# Altium schematic symbol library SamacSys.SchLib: 15 symbols
Pins are listed as number, name and electrical type; pins without a type are passive.

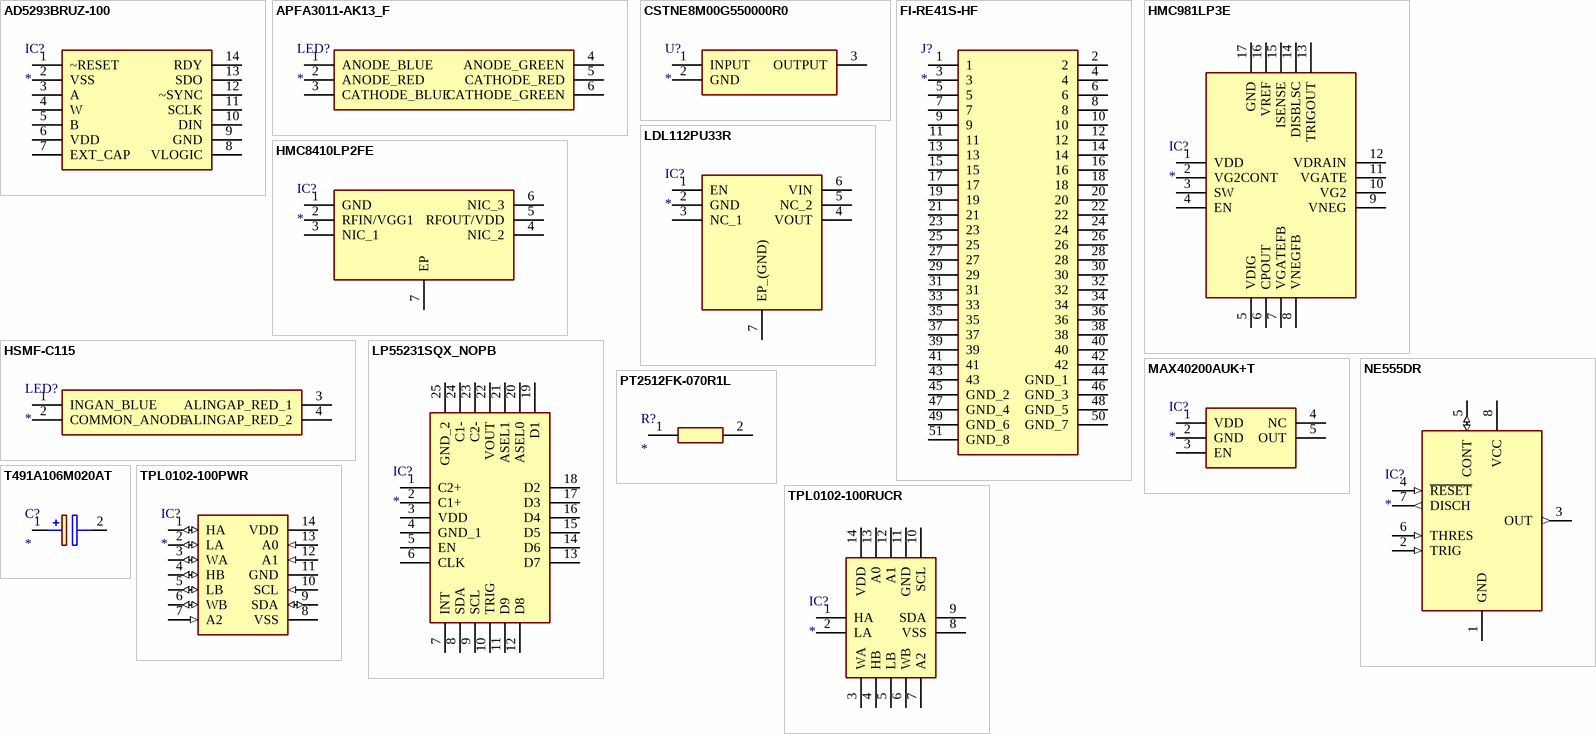
[diagram p0: symbols AD5293BRUZ-100 to TPL0102-100RUCR]

## AD5293BRUZ-100
designator IC?
Integrated Circuit; Manufacturer_Name: Analog Devices; Manufacturer_Part_Number: AD5293BRUZ-100; Datasheet Link: http://componentsearchengine.com/Datasheets/1/AD5293BRUZ-100.pdf; Mouser Part Number: 584-AD5293BRUZ-100; Mouser Price/Stock: https://www.mouser.com/Search/Refine.aspx?Keyword=584-AD5293BRUZ-100; RS Part Number: 1216717; RS Price/Stock: http://uk.rs-online.com/web/p/products/1216717
footprint SOP65P640X120-14N
pins: 1 ~RESET, 2 VSS, 3 A, 4 W, 5 B, 6 VDD, 7 EXT_CAP, 8 VLOGIC, 9 GND, 10 DIN, 11 SCLK, 12 ~SYNC, 13 SDO, 14 RDY

## APFA3011-AK13_F
designator LED?
LED; Manufacturer_Name: Kingbright; Manufacturer_Part_Number: APFA3011-AK13/F; Datasheet Link: http://www.kingbrightusa.com/images/catalog/SPEC/APFA3011-AK13-F.pdf; Height: 1.2mm; Mouser Part Number: 604-APFA3011AK13F; Mouser Price/Stock: https://www.mouser.com/Search/Refine.aspx?Keyword=604-APFA3011AK13F
footprint APFA3011AK13F
pins: 1 ANODE_BLUE, 2 ANODE_RED, 3 CATHODE_BLUE, 4 ANODE_GREEN, 5 CATHODE_RED, 6 CATHODE_GREEN

## CSTNE8M00G550000R0
designator U?
Undefined or Miscellaneous; Manufacturer_Name: Murata Electronics; Manufacturer_Part_Number: CSTNE8M00G550000R0; Datasheet Link: https://www.murata.com/en-eu/products/productdata/8801161740318/SPEC-CSTNE8M00G550000R0.pdf?1519875007000; Height: 1mm; Mouser Part Number: 81-CSTNE8M00G550000R; Mouser Price/Stock: https://www.mouser.com/Search/Refine.aspx?Keyword=81-CSTNE8M00G550000R
footprint CSTNE16M0V530000R0
pins: 1 INPUT, 2 GND, 3 OUTPUT

## FI-RE41S-HF
designator J?
Connector; Manufacturer_Name: JAE Electronics; Manufacturer_Part_Number: FI-RE41S-HF; Datasheet Link: https://componentsearchengine.com/Datasheets/1/FI-RE41S-HF.pdf; Mouser Part Number: 656-FI-RE41S-HF; Mouser Price/Stock: https://www.mouser.com/Search/Refine.aspx?Keyword=656-FI-RE41S-HF
footprint FI-RE41S-HF
pins: 1, 2, 3, 4, 5, 6, 7, 8, 9, 10, 11, 12, 13, 14, 15, 16, 17, 18, 19, 20, 21, 22, 23, 24, 25, 26, 27, 28, 29, 30, 31, 32, 33, 34, 35, 36, 37, 38, 39, 40, 41, 42, 43, 44 GND_1, 45 GND_2, 46 GND_3, 47 GND_4, 48 GND_5, 49 GND_6, 50 GND_7, 51 GND_8

## HMC981LP3E
designator IC?
Integrated Circuit; Manufacturer_Name: Analog Devices; Manufacturer_Part_Number: HMC981LP3E; Datasheet Link: https://www.analog.com/media/en/technical-documentation/data-sheets/hmc981.pdf; Height: 1mm; Mouser Part Number: 584-HMC981LP3E; Mouser Price/Stock: https://www.mouser.com/Search/Refine.aspx?Keyword=584-HMC981LP3E
footprint QFN50P300X300X100-17N
pins: 1 VDD, 2 VG2CONT, 3 SW, 4 EN, 5 VDIG, 6 CPOUT, 7 VGATEFB, 8 VNEGFB, 9 VNEG, 10 VG2, 11 VGATE, 12 VDRAIN, 13 TRIGOUT, 14 DISBLSC, 15 ISENSE, 16 VREF, 17 GND

## HMC8410LP2FE
designator IC?
Integrated Circuit; Manufacturer_Name: Analog Devices; Manufacturer_Part_Number: HMC8410LP2FE; Datasheet Link: http://www.analog.com/media/en/technical-documentation/data-sheets/HMC8410.pdf; Height: 0.9mm; Mouser Part Number: 584-HMC8410LP2FE; Mouser Price/Stock: https://www.mouser.com/Search/Refine.aspx?Keyword=584-HMC8410LP2FE
footprint SON65P200X200X90-7N-D
pins: 1 GND, 2 RFIN/VGG1, 3 NIC_1, 4 NIC_2, 5 RFOUT/VDD, 6 NIC_3, 7 EP

## HSMF-C115
designator LED?
LED; Manufacturer_Name: Avago Technologies; Manufacturer_Part_Number: HSMF-C115; Datasheet Link: https://docs.broadcom.com/docs/AV02-0611EN; Height: 1.1mm; Mouser Part Number: 630-HSMF-C115; Mouser Price/Stock: https://www.mouser.com/Search/Refine.aspx?Keyword=630-HSMF-C115; RS Part Number: 7166573; RS Price/Stock: https://uk.rs-online.com/web/p/products/7166573
footprint HSMFC115
pins: 1 INGAN_BLUE, 2 COMMON_ANODE, 3 ALINGAP_RED_1, 4 ALINGAP_RED_2

## LDL112PU33R
designator IC?
Integrated Circuit; Manufacturer_Name: STMicroelectronics; Manufacturer_Part_Number: LDL112PU33R; Datasheet Link: https://www.st.com/resource/en/datasheet/ldl112.pdf; Height: 0.8mm; Mouser Part Number: 511-LDL112PU33R; Mouser Price/Stock: https://www.mouser.com/Search/Refine.aspx?Keyword=511-LDL112PU33R
footprint SON50P200X200X80-7N-D
pins: 1 EN, 2 GND, 3 NC_1, 4 VOUT, 5 NC_2, 6 VIN, 7 EP_(GND)

## LP55231SQX_NOPB
designator IC?
Integrated Circuit; Manufacturer_Name: Texas Instruments; Manufacturer_Part_Number: LP55231SQX/NOPB; Datasheet Link: http://www.ti.com/lit/gpn/lp55231; Height: 0.8mm; Mouser Part Number: 595-LP55231SQX/NOPB; Mouser Price/Stock: https://www.mouser.com/Search/Refine.aspx?Keyword=595-LP55231SQX%2FNOPB
footprint QFN50P400X400X80-25N
pins: 1 C2+, 2 C1+, 3 VDD, 4 GND_1, 5 EN, 6 CLK, 7 INT, 8 SDA, 9 SCL, 10 TRIG, 11 D9, 12 D8, 13 D7, 14 D6, 15 D5, 16 D4, 17 D3, 18 D2, 19 D1, 20 ASEL0, 21 ASEL1, 22 VOUT, 23 C2-, 24 C1-, 25 GND_2

## MAX40200AUK+T
designator IC?
Integrated Circuit; Manufacturer_Name: Maxim Integrated; Manufacturer_Part_Number: MAX40200AUK+T; Datasheet Link: https://datasheets.maximintegrated.com/en/ds/MAX40200.pdf; Height: 1.45mm; Mouser Part Number: 700-MAX40200AUK+T; Mouser Price/Stock: https://www.mouser.com/Search/Refine.aspx?Keyword=700-MAX40200AUK%2BT; RS Part Number: 1697573; RS Price/Stock: https://uk.rs-online.com/web/p/products/1697573
footprint SOT95P280X145-5N
pins: 1 VDD, 2 GND, 3 EN, 4 NC, 5 OUT

## NE555DR
designator IC?
Integrated Circuit; Manufacturer_Name: Texas Instruments; Manufacturer_Part_Number: NE555DR; Datasheet Link: http://www.ti.com/lit/ds/symlink/ne555.pdf; Height: 1.75mm; Mouser Part Number: 595-NE555DR; Mouser Price/Stock: https://www.mouser.com/Search/Refine.aspx?Keyword=595-NE555DR; RS Part Number: 1218414; RS Price/Stock: http://uk.rs-online.com/web/p/products/1218414
footprint SOIC127P600X175-8N
pins: 1 GND (power), 2 TRIG (in), 3 OUT (out), 4 ~{RESET} (in), 5 CONT (io), 6 THRES (in), 7 DISCH (out), 8 VCC (power)

## PT2512FK-070R1L
designator R?
Resistor; Manufacturer_Name: YAGEO (PHYCOMP); Manufacturer_Part_Number: PT2512FK-070R1L; Datasheet Link: https://componentsearchengine.com/Datasheets/1/PT2512FK-070R1L.pdf; Height: 0.65mm; Mouser Part Number: 603-PT2512FK-070R1L; Mouser Price/Stock: https://www.mouser.com/Search/Refine.aspx?Keyword=603-PT2512FK-070R1L
footprint RESC6432X65N
pins: 1, 2

## T491A106M020AT
designator C?
Capacitor Polarised; Manufacturer_Name: Kemet; Manufacturer_Part_Number: T491A106M020AT; Allied_Number: 70610889; Datasheet Link: https://api.kemet.com/component-edge/download/datasheet/T491A106M020AT.pdf; Height: 1.8mm; Mouser Part Number: 80-T491A106M020; Mouser Price/Stock: https://www.mouser.com/Search/Refine.aspx?Keyword=80-T491A106M020; RS Part Number: 8015489P; RS Price/Stock: http://uk.rs-online.com/web/p/products/8015489P; Allied Price/Stock: https://www.alliedelec.com/kemet-t491a106m020at/70610889/
footprint CAPPM3216X180N
pins: 1 +, 2 -

## TPL0102-100PWR
designator IC?
Integrated Circuit; Manufacturer_Name: Texas Instruments; Manufacturer_Part_Number: TPL0102-100PWR; Datasheet Link: http://www.ti.com/lit/gpn/tpl0102-100; Height: 1.2mm; Mouser Part Number: 595-TPL0102-100PWR; Mouser Price/Stock: https://www.mouser.com/Search/Refine.aspx?Keyword=595-TPL0102-100PWR; RS Part Number: 8255346; RS Price/Stock: https://uk.rs-online.com/web/p/products/8255346
footprint SOP65P640X120-14N
pins: 1 HA (io), 2 LA (io), 3 WA (io), 4 HB (io), 5 LB (io), 6 WB (io), 7 A2 (in), 8 VSS (power), 9 SDA (io), 10 SCL (in), 11 GND (power), 12 A1 (in), 13 A0 (in), 14 VDD (power)

## TPL0102-100RUCR
designator IC?
Integrated Circuit; Manufacturer_Name: Texas Instruments; Manufacturer_Part_Number: TPL0102-100RUCR; Datasheet Link: http://www.ti.com/lit/ds/symlink/tpl0102-100.pdf; Height: 0.4mm; Mouser Part Number: 595-TPL0102-100RUCR; Mouser Price/Stock: https://www.mouser.com/Search/Refine.aspx?Keyword=595-TPL0102-100RUCR; RS Part Number: 7422961P; RS Price/Stock: http://uk.rs-online.com/web/p/products/7422961P
footprint QFN40P200X200X40-14N
pins: 1 HA, 2 LA, 3 WA, 4 HB, 5 LB, 6 WB, 7 A2, 8 VSS, 9 SDA, 10 SCL, 11 GND, 12 A1, 13 A0, 14 VDD